# Altium integrated library SN7407D.IntLib: 1 symbol
Pins are listed as number, name and electrical type; pins without a type are passive.

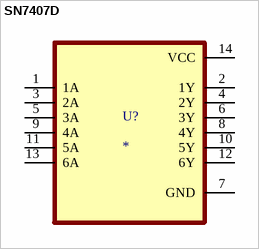
[diagram p0: symbol SN7407D]

## SN7407D
designator U?
Hex Buffers/Drivers With Open-Collector High-Voltage Outputs 14-SOIC 0 to 70; MP: SN7407D; MF: Texas Instruments; SnapEDA_Link: https://www.snapeda.com/parts/SN7407D/Texas%20Instruments/view-part/288340/?ref=snap; Package: SOIC-14 Texas Instruments; Check_prices: https://www.snapeda.com/parts/SN7407D/Texas%20Instruments/view-part/288340/?ref=eda; Value: *; Purchase-URL: https://pricing.snapeda.com/search/part/SN7407D/?ref=eda; Digi-Key_Part_Number: 296-1018-2-ND
footprint SOIC127P600X175-14N
pins: 1 1A, 2 1Y, 3 2A, 4 2Y, 5 3A, 6 3Y, 7 GND (power), 8 4Y, 9 4A, 10 5Y, 11 5A, 12 6Y, 13 6A, 14 VCC (power)